# EAGLE library part ESCON-50-5 (library escon-50-5-mobo)
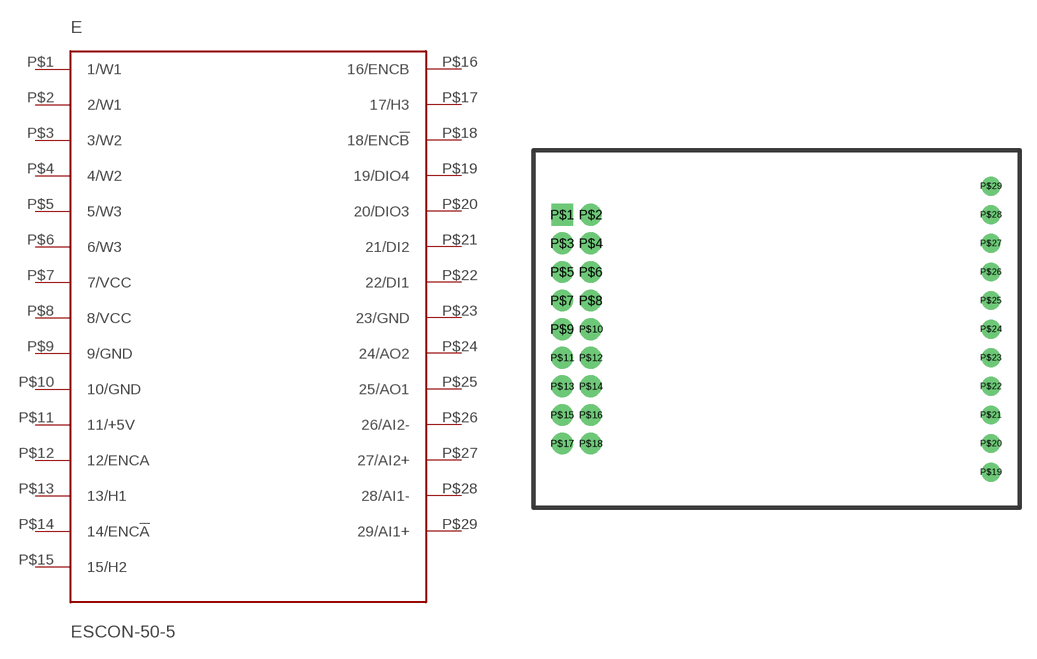
[diagram p2: symbol with the pads of ESCON-50-5; footprint ESCON-50-5]

Designator prefix E

## ESCON-50-5  [ESCON-50-5]
P$1  1/W1
P$2  2/W1
P$3  3/W2
P$4  4/W2
P$5  5/W3
P$6  6/W3
P$7  7/VCC
P$8  8/VCC
P$9  9/GND
P$10  10/GND
P$11  11/+5V
P$12  12/ENCA
P$13  13/H1
P$14  14/ENC!A!
P$15  15/H2
P$16  16/ENCB
P$17  17/H3
P$18  18/ENC!B!
P$19  19/DIO4
P$20  20/DIO3
P$21  21/DI2
P$22  22/DI1
P$23  23/GND
P$24  24/AO2
P$25  25/AO1
P$26  26/AI2-
P$27  27/AI2+
P$28  28/AI1-
P$29  29/AI1+

## Footprint ESCON-50-5 (pad centres in mm)
ESCON 50-5
drill 1 pad 1.93 square: P$1 -19.05,10.16
drill 1 pad 1.93: P$2 -16.51,10.16; P$3 -19.05,7.62; P$4 -16.51,7.62; P$5 -19.05,5.08; P$6 -16.51,5.08; P$7 -19.05,2.54; P$8 -16.51,2.54; P$9 -19.05,0; P$10 -16.51,0; P$11 -19.05,-2.54; P$12 -16.51,-2.54; P$13 -19.05,-5.08; P$14 -16.51,-5.08; P$15 -19.05,-7.62; P$16 -16.51,-7.62; P$17 -19.05,-10.16; P$18 -16.51,-10.16
drill 1 pad 1.676: P$19 19.05,-12.7; P$20 19.05,-10.16; P$21 19.05,-7.62; P$22 19.05,-5.08; P$23 19.05,-2.54; P$24 19.05,0; P$25 19.05,2.54; P$26 19.05,5.08; P$27 19.05,7.62; P$28 19.05,10.16; P$29 19.05,12.7